# Altium footprint library Resistor_DIP.PcbLib: 68 footprints (part 2 of 5)
Each footprint in its own frame and in the unit in brackets; x right, y up, seen from the top. Pads: shape width x height; smd on the part's side, far side on the other; paste and mask are expansions set on the pad; w line width, h text height; cw(c..) or ccw(c..) is an arc to the next point about the centre after c.
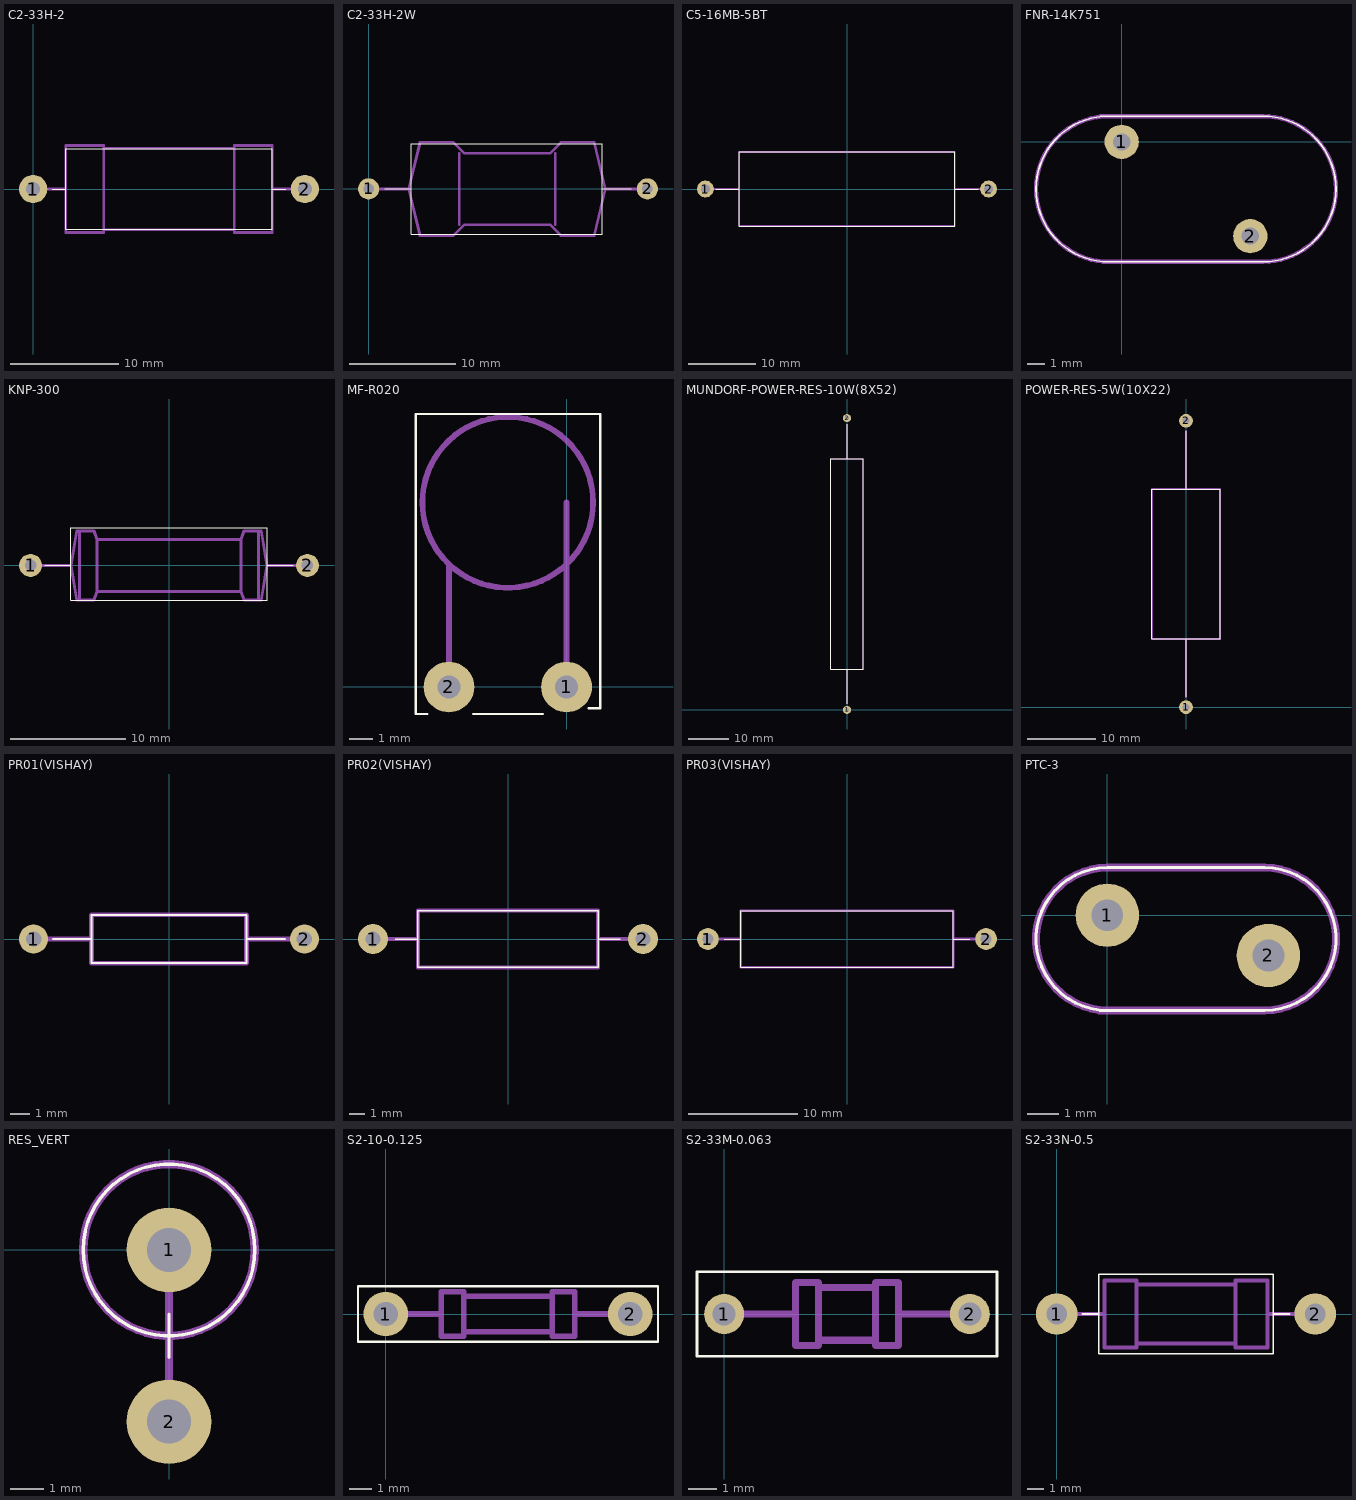
[diagram p1: the footprints below, top view; thin cyan lines are the x and y axes]

## C2-33H-2 [mm]
pads (2):
  round 2.6 hole 1.3: 1(0,0) 2(25,0)
Top Overlay:
  lines w0.1: 1.75,0 3,0 ; 3,3.7 22,3.7 22,-3.7 3,-3.7 3.02,3.7 ; 22,0 23.25,0
Mechanical 1:
  lines w0.15: 1.6,0 3,0 ; 22,0 23.4,0
  lines w0.25: 0,0 3,0 ; 6.5,-3.75 18.5,-3.75 ; 6.5,3.75 18.5,3.75 ; 22,0 25,0 ; 3,-4 6.5,-4 6.5,4 3,4 3,-4 ; 18.5,-4 22,-4 22,4 18.5,4 18.5,-4

## C2-33H-2W [mm]
pads (2):
  round 2 hole 1: 1(0,0) 2(26.25,0)
Top Overlay:
  lines w0.1: 1.5,0 4,0 ; 22,0 24.75,0 ; 4,0 4,4.25 22,4.25 22,-4.25 4,-4.25 4,0
Mechanical 1:
  lines w0.25: 8.519,-3.359 8.519,3.342 ; 17.572,-3.359 17.572,3.342 ; 3.796,-0.008 4.843,4.389 7.984,4.389 9.031,3.342 17.06,3.342 18.107,4.389 21.248,4.389 22.296,-0.008 21.248,-4.406 18.107,-4.406 17.06,-3.359 9.031,-3.359 7.984,-4.406 4.843,-4.406 3.796,-0.008
  lines w0.254: 0,0 3.75,0 ; 22.25,0 26.25,0

## C5-16MB-5BT [mm]
pads (2):
  round 2.5 hole 1.3: 1(-21,0) 2(21,0)
Top Overlay:
  lines w0.1: -19.5,0 -16,0 ; 16,0 19.5,0 ; -16,-5.5 16,-5.5 16,5.5 -16,5.5 -16,-5.5
Mechanical 1:
  lines w0.25: -21,0 -16,0 ; 16,0 21,0 ; -16,-5.5 16,-5.5 16,5.5 -16,5.5 -16,-5.5

## FNR-14K751 [mm]
pads (2):
  round 2 hole 1: 1(0,0) 2(7.5,-5.5)
Top Overlay:
  lines w0.1: -1.25,1.5 8.25,1.5 cw(c8.25,-2.75) 8.25,-7 -1,-7 ; -0.75,-7 cw(c-0.75,-2.75) -0.75,1.5
Mechanical 1:
  lines w0.25: -1.25,1.5 8.25,1.5 cw(c8.25,-2.75) 8.25,-7 -1,-7 ; -0.75,-7 cw(c-0.75,-2.75) -0.75,1.5

## KNP-300 [mm]
pads (2):
  round 2 hole 1: 1(-12,0) 2(12,0)
Top Overlay:
  lines w0.1: -10.75,0 -8.5,0 ; 8.5,0 10.75,0 ; -8.5,-3 8.5,-3 8.5,3.25 -8.5,3.25 -8.5,-3
Mechanical 1:
  lines w0.25: -12,0 -8.5,0 ; -7.75,-3 -7.75,3 ; 7.75,-3 7.75,3 ; 12,0 8.5,0 ; -8.5,0 -8,-3 -6.5,-3 -6.25,-2.25 ; -8.5,0 -8,3 -6.5,3 -6.25,2.25 ; -6.25,-2.25 6.25,-2.25 ; -6.25,-2.25 -6.25,2.25 ; -6.25,2.25 6.25,2.25 ; 6.25,-2.25 6.25,2.25 ; 6.25,-2.25 6.5,-3 8,-3 8.5,0 ; 6.25,2.25 6.5,3 8,3 8.5,0

## MF-R020 [mm]
pads (2):
  round 2.2 hole 1: 1(0,0) 2(-5.1,0)
Top Overlay:
  lines w0.1: -6.04,-1.17 -6.54,-1.17 -6.54,11.83 1.21,11.83 1.46,11.83 1.46,-0.92 0.96,-0.92 ; -4.04,-1.17 -1.04,-1.17
Mechanical 1:
  circle w0.254: c-2.55,8 r3.7
  lines w0.254: -5.1,0 -5.1,5.32 ; 0,0 0,8

## MUNDORF-POWER-RES-10W(8X52) [mm]
pads (2):
  round 2 hole 1: 1(0,0) 2(0,72)
Top Overlay:
  lines w0.1: 0,1.5 0,10 ; 0,62 0,70.5 ; -4,10 4,10 4,62 -4,62 -4,10
Mechanical 1:
  lines w0.25: 0,1.5 0,10 ; 0,62 0,70.5 ; -4,10 4,10 4,62 -4,62 -4,10

## POWER-RES-5W(10X22) [mm]
pads (2):
  round 2 hole 1: 1(0,0) 2(0,42)
Top Overlay:
  lines w0.1: 0,1.5 0,10 ; 0,32 0,40.5 ; -5,10 5,10 5,32 -5,32 -5,10
Mechanical 1:
  lines w0.25: 0,1.5 0,10 ; 0,32 0,40.5 ; -5,10 5,10 5,32 -5,32 -5,10

## PR01(VISHAY) [mm]
pads (2):
  round 1.5 hole 0.8: 1(-7,0) 2(7,0)
Top Overlay:
  lines w0.1: -6,0 -4,0 ; 4,0 6,0 ; -4,0 -4,-1.25 4,-1.25 4,1.25 -4,1.25 -4,0
Mechanical 1:
  lines w0.25: -7,0 -4,0 ; 7,0 4,0 ; -4,0 -4,-1.25 4,-1.25 4,0 ; -4,0 -4,1.25 4,1.25 4,0

## PR02(VISHAY) [mm]
pads (2):
  round 2 hole 1: 1(-9,0) 2(9,0)
Top Overlay:
  lines w0.1: -7.5,0 -6,0 ; 6,0 7.5,0 ; -6,0 -6,-1.9 6,-1.9 6,1.9 -6,1.9 -6,0
Mechanical 1:
  lines w0.25: -9,0 -6,0 ; 9,0 6,0 ; -6,0 -6,-1.9 6,-1.9 6,0 ; -6,0 -6,1.9 6,1.9 6,0

## PR03(VISHAY) [mm]
pads (2):
  round 2 hole 1: 1(-12.75,0) 2(12.75,0)
Top Overlay:
  lines w0.1: -11.25,0 -9.75,0 ; 9.75,0 11.25,0 ; -9.75,0 -9.75,-2.6 9.75,-2.6 9.75,2.6 -9.75,2.6 -9.75,0
Mechanical 1:
  lines w0.25: -12.75,0 -9.75,0 ; 12.75,0 9.75,0 ; -9.75,0 -9.75,-2.6 9.75,-2.6 9.75,0 ; -9.75,0 -9.75,2.6 9.75,2.6 9.75,0

## PTC-3 [mm]
pads (2):
  round 2 hole 1: 1(0,0) 2(5.08,-1.27)
Top Overlay:
  lines w0.1: -0.25,-3 4.96,-3 ccw(c4.96,-0.75) 4.96,1.5 0,1.5 ccw(c0,-0.75) 0,-3
Mechanical 1:
  lines w0.25: -0.25,-3 4.96,-3 ccw(c4.96,-0.75) 4.96,1.5 0,1.5 ccw(c0,-0.75) 0,-3

## RES_VERT [mm]
pads (2):
  round 2.5 hole 1.3: 1(0,0) 2(0,-5.08)
Top Overlay:
  lines w0.1: 0,-3.175 0,-1.905 ; -2.54,0 ccw(c0,0) 2.54,0 ccw(c0,0) -2.54,0
Mechanical 1:
  circle w0.25: c0,0 r0.635
  circle w0.25: c0,-5.08 r0.635
  lines w0.25: 0,-5.08 0,0 ; -2.54,0 ccw(c0,0) 2.54,0 ccw(c0,0) -2.54,0

## S2-10-0.125 [mm]
pads (2):
  round 2 hole 1.1: 1(0,0) 2(11,0)
Top Overlay:
  lines w0.1: -1.25,-1.25 12.25,-1.25 12.25,1.25 -1.25,1.25 -1.25,-1.25
Mechanical 1:
  lines w0.25: 0,0 2.5,0 ; 3.5,-0.8 7.5,-0.8 ; 3.5,0.8 7.5,0.8 ; 8.5,0 11,0 ; 2.5,-1 2.5,1 3.5,1 3.5,-1 2.5,-1 ; 7.5,-1 7.5,1 8.5,1 8.5,-1 7.5,-1

## S2-33M-0.063 [mm]
pads (2):
  round 1.4 hole 0.8: 1(0,0) 2(8.6,0)
Top Overlay:
  lines w0.1: -0.95,-1.48 9.55,-1.48 9.55,1.48 -0.95,1.48 -0.95,-1.48
Mechanical 1:
  lines w0.25: 0,0 2.5,0 ; 3.3,-0.92 5.3,-0.92 ; 3.3,0.93 5.3,0.93 ; 6.1,0 8.6,0 ; 2.5,-1.1 2.5,1.1 3.3,1.1 3.3,-1.1 2.5,-1.1 ; 5.3,-1.1 5.3,1.1 6.1,1.1 6.1,-1.1 5.3,-1.1

## S2-33N-0.5 [mm]
pads (2):
  round 2.6 hole 1.3: 1(0,0) 2(16.2,0)
Top Overlay:
  lines w0.1: 1.6,0 2.62,0 ; 13.58,0 14.6,0 ; 2.62,-2.48 13.58,-2.48 13.58,2.48 2.62,2.48 2.62,-2.48
Mechanical 1:
  lines w0.25: 0,0 3,0 ; 5,-1.85 11.2,-1.85 ; 5,1.85 11.2,1.85 ; 13.2,0 16.2,0 ; 3,-2.1 3,2.1 5,2.1 5,-2.1 3,-2.1 ; 11.2,-2.1 11.2,2.1 13.2,2.1 13.2,-2.1 11.2,-2.1